# EAGLE library part T-TYPE-RELAY-30A (library T-type-relay)
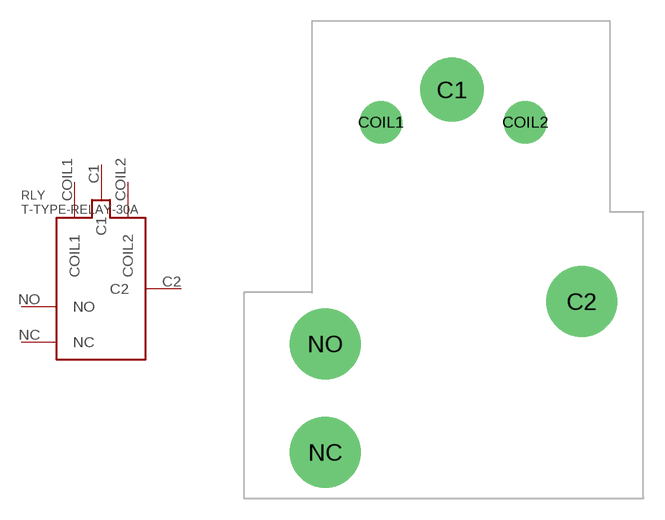
[diagram p0: symbol with the pads of T-TYPE-RELAY-30A; footprint T-TYPE-RELAY-30A]

Designator prefix RLY

## T-TYPE-RELAY-30A  [T-TYPE-RELAY-30A]
C1  C1
C2  C2
COIL1  COIL1
COIL2  COIL2
NC  NC
NO  NO

## Footprint T-TYPE-RELAY-30A (pad centres in mm)
drill 1.8 pad 4.5: C1 18.925,35.56
drill 1.8 pad 5: C2 28.08,20.63
drill 1 pad 3: COIL1 13.925,33.265; COIL2 24.085,33.265
drill 1.85 pad 5: NC 10,10; NO 10,17.645